# EAGLE library part IC_LT1616 (library psas_eagle_library)
LT1616 step-down switching regulator 1.4MHz, 600mA, in SOT23-6
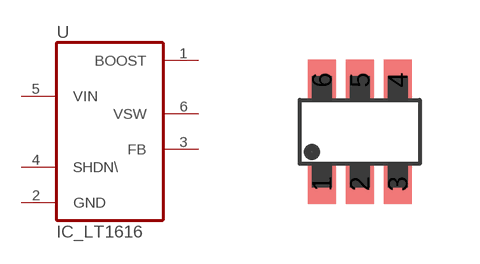
[diagram p34: symbol with the pads of SOT23-6; footprint SOT23-6]

Designator prefix U

## IC_LT1616ES6  [SOT23-6]
1  BOOST  pas
2  GND  pwr
3  FB  pas
4  SHDN\  in
5  VIN  pas
6  VSW  pas

## Footprint SOT23-6 (pad centres in mm)
smd 0.7 x 1: 1 -0.95,-1.3; 2 0,-1.3; 3 0.95,-1.3; 4 0.95,1.3; 5 0,1.3; 6 -0.95,1.3